# EAGLE library part UCC27200 (library My_TI)
UCC27200 120-V Boot, 3-A Peak, High Frequency, High-Side/Low-Side Driver • Drives Two N-Channel MOSFETs in High-Side/Low-Side Configuration. • Maximum Boot Voltage 120 V • Maximum VDD Voltage 20 V Greater than 1 MHz of Operation Datasheet <http://www.ti.com/lit/ds/symlink/ucc27200.pdf>
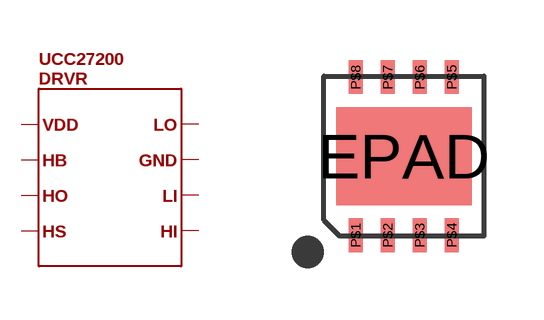
[diagram p37: symbol with the pads of SON8; footprint SON8]

Designator prefix DRVR

## UCC27200  [SON8]
EPAD  P$7
P$1  P$1
P$2  P$2
P$3  P$3
P$4  P$4
P$5  P$5
P$6  P$6
P$7  P$7
P$8  P$8

## Footprint SON8 (pad centres in mm)
smd 3.38 x 2.45: EPAD 0,0
smd 0.35 x 0.85: P$1 -1.2,-1.975; P$2 -0.4,-1.975; P$3 0.4,-1.975; P$4 1.2,-1.975; P$5 1.2,1.975; P$6 0.4,1.975; P$7 -0.4,1.975; P$8 -1.2,1.975